# Altium schematic symbol library INA226AIDGSR.SchLib: 1 symbol
Pins are listed as number, name and electrical type; pins without a type are passive.

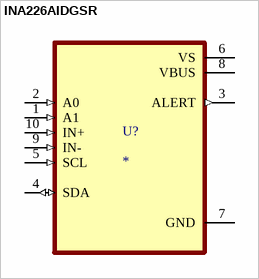
[diagram p0: symbol INA226AIDGSR]

## INA226AIDGSR
designator U?
MF: {'manufacturer': u'Texas Instruments'}; MP: INA226AIDGSR; Value: *; Price: None; Availability: Unavailable; Package: None
footprint SOP50P490X110-10N
pins: 1 A1 (in), 2 A0 (in), 3 ALERT (out), 4 SDA (io), 5 SCL (in), 6 VS (power), 7 GND (power), 8 VBUS (power), 9 IN- (in), 10 IN+ (in)